# EAGLE library part WE-FB_EP7_SCH1 (library WE-FB)
WE-FB Flyback Transformer suitable for LT3573/ LT3574/ LT3575/ LT3748 Characteristics Easy design-in solution Less external components needed Small board space Low cost No optocoupler needed! Long term reliability voltage control No aging Same external parts for different output voltages Easy design of custom power supply due to standard circuit and change of transformers and two components for feedback loop Isolation voltage up to 2.5 kV Applications Isolated power design Sensor interfaces Isolated telecom converters Power over Ethernet <https://www.we-online.com/catalog/media/o35283v209%20Family_we-fb_LT%20Kits_gruppe.jpg> Details see: www.we-online.com/catalog/WE-FB <www.we-online.com/catalog/WE-FB/?utm_source=eagle_model&utm_medium=description_link&utm_campaign=eisos_eagle> Updated by Ella Wu 2022-07-21 2022 Wurth Elektronik
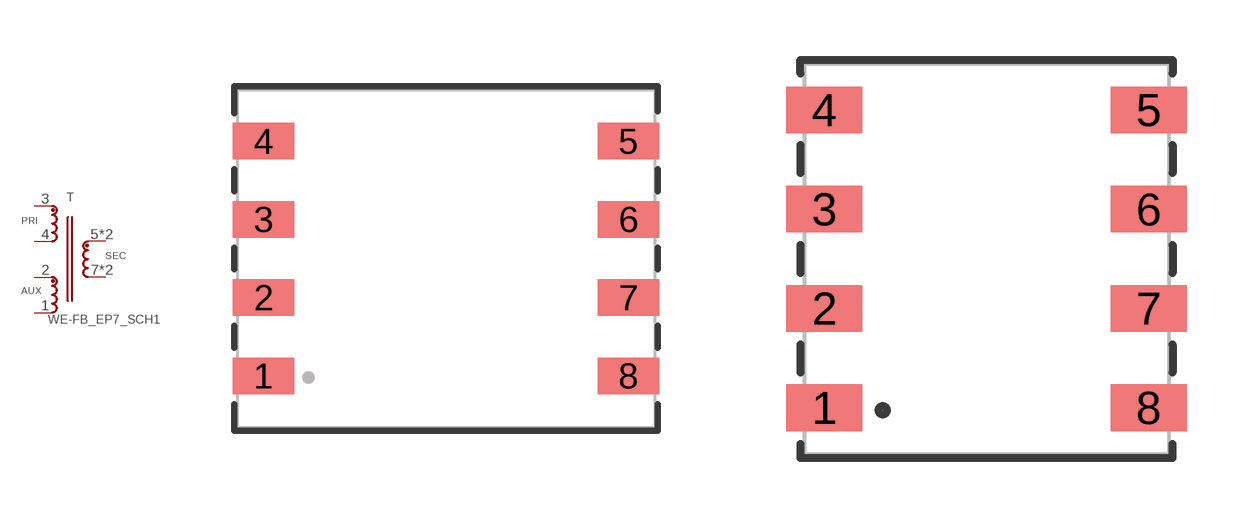
[diagram p14: symbol with the pads of WE-FB_EP7_P11.66; footprints WE-FB_EP7_P11.66, WE-FB_EP7_P8.13]

Designator prefix T

## WE-FB_EP7_SCH1_750370047_P11.66 (DATASHEET-URL: https://www.we-online.com/redexpert/spec/750370047?ae; IOUT: 1A; ISAT: 1.7A; L: 30uH; LSMIN: 1uH; MOUNT: SMT; N: 3:1; PART-NUMBER: 750370047; VALUE: 750370047; VIN: 18-30V(DC); VOUT: 5V; VT: 1500V(AC))  [WE-FB_EP7_P11.66]
1  4  pas
2  3  pas
3  1  pas
4  2  pas
5  6  pas
6  6  pas
7  5  pas
8  5  pas

## WE-FB_EP7_SCH1_750310799_P8.13 (DATASHEET-URL: https://www.we-online.com/redexpert/spec/750310799?ae; IOUT: 0.4A; ISAT: 2A; L: 25uH; LSMIN: 0.15uH; MOUNT: SMT; N: 1:1; PART-NUMBER: 750310799; VALUE: 750310799; VIN: 18-30V(DC); VOUT: 15V; VT: 1500V(AC)), WE-FB_EP7_SCH1_750370040_P8.13 (DATASHEET-URL: https://www.we-online.com/redexpert/spec/750370040?ae; IOUT: 1A; ISAT: 1.7A; L: 30uH; LSMIN: 1uH; MOUNT: SMT; N: 3:1; PART-NUMBER: 750370040; VALUE: 750370040; VIN: 18-30V(DC); VOUT: 5V; VT: 1500V(AC)), WE-FB_EP7_SCH1_750370041_P8.13 (DATASHEET-URL: https://www.we-online.com/redexpert/spec/750370041?ae; IOUT: 1A; ISAT: 1.6A; L: 50uH; LSMIN: 0.45uH; MOUNT: SMT; N: 3:1; PART-NUMBER: 750370041; VALUE: 750370041; VIN: 18-30V(DC); VOUT: 5V; VT: 1500V(AC))  [WE-FB_EP7_P8.13]
Pads as for WE-FB_EP7_P11.66

## WE-FB_EP7_SCH1_750370058_P11.68 (DATASHEET-URL: https://www.we-online.com/redexpert/spec/750370058?ae; IOUT: 0.4A; ISAT: 2A; L: 25uH; LSMIN: 0.185uH; MOUNT: SMT; N: 1:1; PART-NUMBER: 750370058; VALUE: 750370058; VIN: 18-30V(DC); VOUT: 15V; VT: 1500V(AC)), WE-FB_EP7_SCH1_750370059_P11.68 (DATASHEET-URL: https://www.we-online.com/redexpert/spec/750370059?ae; IOUT: 1A; ISAT: 1.6A; L: 50uH; LSMIN: 0.5uH; MOUNT: SMT; N: 3:1; PART-NUMBER: 750370059; VALUE: 750370059; VIN: 18-30V(DC); VOUT: 5V; VT: 1500V(AC))  [WE-FB_EP7_P11.68]
Pads as for WE-FB_EP7_P11.66

## Footprint WE-FB_EP7_P11.66 (pad centres in mm)
WE-FB Flyback Transformer suitable for LT3573/ LT3574/ LT3575/ LT3748 Size: EP7 SMD 8Pin Pitch of PAD=11.66mm
smd 1.96 x 1.17: 1 -5.83,-3.75; 2 -5.83,-1.25; 3 -5.83,1.25; 4 -5.83,3.75; 5 5.83,3.75; 6 5.83,1.25; 7 5.83,-1.25; 8 5.83,-3.75

## Footprint WE-FB_EP7_P8.13 (pad centres in mm)
WE-FB Flyback Transformer suitable for LT3573/ LT3574/ LT3575/ LT3748 Size: EP7 SMD 8Pin Pitch of PAD=8.13mm
smd 1.91 x 1.17: 1 -4.065,-3.735; 2 -4.065,-1.245; 3 -4.065,1.245; 4 -4.065,3.735; 5 4.065,3.735; 6 4.065,1.245; 7 4.065,-1.245; 8 4.065,-3.735

## Footprint WE-FB_EP7_P11.68 (pad centres in mm)
WE-FB Flyback Transformer suitable for LT3573/ LT3574/ LT3575/ LT3748 Size: EP7 SMD 8Pin Pitch of PAD=11.68mm
smd 1.96 x 1.17: 1 -5.84,-3.735; 2 -5.84,-1.245; 3 -5.84,1.245; 4 -5.84,3.735; 5 5.84,3.735; 6 5.84,1.245; 7 5.84,-1.245; 8 5.84,-3.735